# Altium footprint library Connector - USB.PcbLib: 7 footprints
Each footprint in its own frame and in the unit in brackets; x right, y up, seen from the top. Pads: shape width x height; smd on the part's side, far side on the other; paste and mask are expansions set on the pad; w line width, h text height; cw(c..) or ccw(c..) is an arc to the next point about the centre after c.
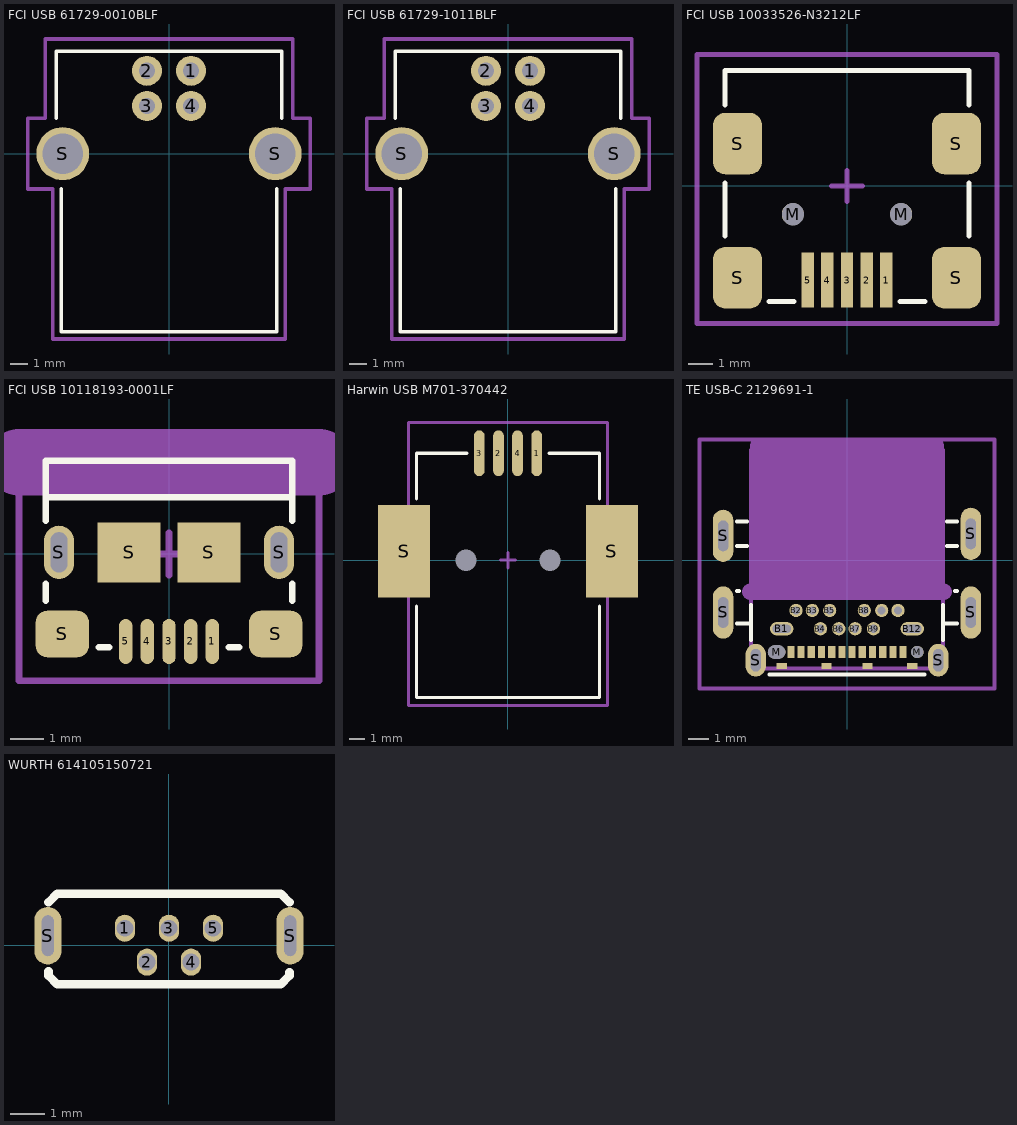
[diagram p0: the footprints below, top view; thin cyan lines are the x and y axes]

## FCI USB 61729-0010BLF [mm]
height 11
pads (6):
  round 1.7 hole 0.92: 1(1.25,4.7) 2(-1.25,4.7) 3(-1.25,2.71) 4(1.25,2.71)
  round 3 hole 2.3: S(-6.02,0) S(6.02,0)
Top Overlay:
  lines w0.2: -6.4,2 -6.4,5.8 6.4,5.8 6.4,2 ; -6.1,-2 -6.1,-10.1 6.1,-10.1 6.1,-2
Mechanical 15:
  lines w0.2: -8,-2 -8,2 -7,2 -7,6.5 0,6.5 7,6.5 7,2 8,2 8,-2 6.6,-2 6.6,-10.5 0,-10.5 -6.6,-10.5 -6.6,-2 -8,-2
3D body "FCI 61729-0010BLF.STEP": height 11, standoff -2.8, extent -6.56,-10.175 6.56,5.765

## FCI USB 61729-1011BLF [mm]
height 11
pads (6):
  round 1.7 hole 0.92: 1(1.25,4.7) 2(-1.25,4.7) 3(-1.25,2.71) 4(1.25,2.71)
  round 3 hole 2.3: S(-6.02,0) S(6.02,0)
Top Overlay:
  lines w0.2: -6.4,2 -6.4,5.8 6.4,5.8 6.4,2 ; -6.1,-2 -6.1,-10.1 6.1,-10.1 6.1,-2
Mechanical 15:
  lines w0.2: -8,-2 -8,2 -7,2 -7,6.5 0,6.5 7,6.5 7,2 8,2 8,-2 6.6,-2 6.6,-10.5 0,-10.5 -6.6,-10.5 -6.6,-2 -8,-2
3D body "FCI 61729-1011BLF.STEP": height 11, standoff -2.8, extent -6.56,-10.175 6.56,5.765

## FCI USB 10033526-N3212LF [mm] "USB 2.0 Type B Mini"
height 3.95
pads (11):
  rect 0.5x2.25 smd: 1(1.6,-3.826) 2(0.8,-3.826) 3(0,-3.826) 4(-0.8,-3.826) 5(-1.6,-3.826)
  round 0.9 hole 0.9 unplated: M(-2.2,-1.151) M(2.2,-1.151)
  rrect50% 2x2.5 smd: S(-4.45,-3.731) S(-4.45,1.719) S(4.45,-3.731) S(4.45,1.719)
Top Overlay:
  lines w0.2: -4.953,-2.04 -4.953,0.119 ; -4.953,3.294 -4.953,4.691 4.953,4.691 4.953,3.294 ; -3.175,-4.707 -2.159,-4.707 ; 2.159,-4.707 3.175,-4.707 ; 4.953,-2.04 4.953,0.119
Mechanical 15:
  lines w0.2: -0.635,0 0.635,0 ; 0,-0.635 0,0.635 ; -6.096,-5.588 -6.096,5.334 6.096,5.334 6.096,-5.588 -6.096,-5.588
3D body "FCI USB 10033526-N3212LF.STEP": height 4.01, standoff -0.99, extent -4.95,-4.701 4.95,4.699

## FCI USB 10118193-0001LF [mm] "USB 2.0 Type B Micro"
height 3.1
pads (11):
  oval 0.4x1.35 smd: 1(1.3,-2.625) 2(0.65,-2.625) 3(0,-2.625) 4(-0.65,-2.625) 5(-1.3,-2.625)
  oval 0.9x1.6 hole 0.5 slot 1.2 at 90 deg: S(-3.3,0.05) S(3.3,0.05)
  rrect50% 1.6x1.4 smd: S(-3.2,-2.4) S(3.2,-2.4)
  rect 1.9x1.8 smd: S(-1.2,0.05) S(1.2,0.05)
Top Overlay:
  lines w0.2: -3.7,-1.4 -3.7,-0.9 ; -3.7,1 -3.7,1.7 ; -2.1,-2.8 -1.8,-2.8 ; 1.8,-2.8 2.1,-2.8 ; 3.7,-1.4 3.7,-0.9 ; 3.7,1 3.7,1.7 ; -3.7,1.7 -3.7,2.8 3.7,2.8 3.7,1.7 ; -3.7,1.7 3.7,1.7
Mechanical 15:
  lines w0.2: -0.635,0 0.635,0 ; 0,-0.635 0,0.635 ; -4.5,-3.8 4.5,-3.8 4.5,3.2 -4.5,3.2 -4.5,-3.8
Mechanical 31:
  lines w2: -4.5,2.754 0,2.754 4.5,2.754
3D body "FCI USB 10118193-0001lfc.STEP": height 2.78, standoff -0.82, extent -3.929,-2.9 3.928,2.76

## Harwin USB M701-370442 [mm]
height 11
pads (8):
  oval 0.7x3 smd: 1(1.875,7) 2(-0.625,7) 3(-1.875,7) 4(0.625,7)
  rect 0x0 hole 1.4 unplated: M(-2.75,0) M(2.75,0)
  rect 3.4x6.04 smd: S(-6.8,0.58) S(6.8,0.58)
Top Overlay:
  lines w0.2: -6,-3 -6,-9 0,-9 6,-9 6,-3 ; -6,4 -6,7 -2.7,7 ; 2.7,7 6,7 6,4
Mechanical 15:
  lines w0.2: -0.5,0 0.5,0 ; 0,-0.5 0,0.5 ; -6.5,-9.5 -6.5,9 0,9 6.5,9 6.5,-9.5 0,-9.5 -6.5,-9.5
3D body "Harwin M701-370442.STEP": height 11, standoff -1.5, extent -8.1,-9 8.1,8.15

## TE USB-C 2129691-1 [mm]
height 2.27
pads (36):
  rect 0.35x0.6 smd: A1(2.75,-4.5) A2(2.25,-4.5) A3(1.75,-4.5) A4(1.25,-4.5) A5(0.75,-4.5) A6(0.25,-4.5) A7(-0.25,-4.5) A8(-0.75,-4.5) A9(-1.25,-4.5) A10(-1.75,-4.5) A11(-2.25,-4.5) A12(-2.75,-4.5)
  oval 1.15x0.65 hole 0.4 slot 0.9 at 0 deg: B1(-3.2,-3.36) B12(3.2,-3.36)
  round 0.65 hole 0.4: B2(-2.5,-2.46) B3(-1.7,-2.46) B4(-1.3,-3.36) B5(-0.85,-2.46) B6(-0.4,-3.36) B7(0.4,-3.36) B8(0.85,-2.46) B9(1.3,-3.36) B10(1.7,-2.46) B11(2.5,-2.46)
  oval 0.85x0.65 hole 0.65 slot 0.85 at 0 deg unplated mask+0.102: M(-3.45,-4.5)
  round 0.6 hole 0.6 unplated mask+0.102: M(3.45,-4.5)
  oval 1x2.56 hole 0.5 slot 1.5 at 90 deg: S(-6.075,-2.56) S(-6.075,1.2) S(6.075,-2.56) S(6.075,1.3)
  oval 1x1.6 hole 0.5 slot 1.1 at 90 deg: S(-4.475,-4.9) S(4.475,-4.9)
  rect 0.5x0.3 smd: S(-3.2,-5.19) S(-1,-5.19) S(1,-5.19) S(3.2,-5.19)
Top Overlay:
  lines w0.2: -5.4,-3.1 -4.7,-3.1 ; -5.4,-1.5 -5.3,-1.5 ; -5.4,0.7 -4.9,0.7 ; -5.4,1.9 -4.9,1.9 ; -4.7,-3.9 -4.7,-2.2 ; -3.8,-5.6 0,-5.6 3.8,-5.6 ; 4.7,-3.9 4.7,-2.2 ; 4.7,-3.1 5.4,-3.1 ; 4.9,0.7 5.4,0.7 ; 4.9,1.9 5.4,1.9 ; 5.3,-1.5 5.4,-1.5
Mechanical 1:
  lines w0.2: -4.7,-5.3 -4.7,5.4 0,5.4 4.7,5.4 4.7,-5.3 0,-5.3 -4.7,-5.3
Mechanical 15:
  lines w0.2: -0.635,0 0.635,0 ; 0,-0.635 0,0.635 ; -7.239,-6.278 -7.239,5.914 0,5.914 7.239,5.914 7.239,-6.278 0,-6.278 -7.239,-6.278
Mechanical 31:
  region: 4.35,5.61 -4.35,5.61 -4.35,-1.54 4.35,-1.54
  lines w0.8: -4.75,-1.54 4.75,-1.54 ; -4.35,-1.54 -4.35,5.61 0,5.61 4.35,5.61 4.35,-1.54
3D body "TE USB 2129691-1.STEP": height 2.27, standoff -1.07, extent -6.175,-5.3 6.175,5.4

## WURTH 614105150721 [mm]
height 5.61
pads (7):
  oval 0.6x0.8 hole 0.5: 1(-1.3,0.5) 2(-0.65,-0.5) 3(0,0.5) 4(0.65,-0.5) 5(1.3,0.5)
  oval 0.8x1.7 hole 0.35 slot 1.2 at 90 deg: S(-3.575,0.28) S(3.575,0.28)
Top Overlay:
  lines w0.254: -3.556,-0.77 -3.556,-0.897 -3.302,-1.151 3.302,-1.151 3.556,-0.897 3.556,-0.794 ; -3.556,1.262 -3.302,1.516 3.302,1.516 3.556,1.262
3D body "Micro USB B THT vertical.STEP": height 6.34, standoff -1.57, extent -4,-1.325 4,1.69